# Altium schematic symbol library AMPHENOL_10118194-0001LF.SchLib: 1 symbol
Pins are listed as number, name and electrical type; pins without a type are passive.

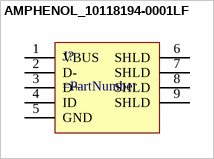
[diagram p0: symbol AMPHENOL_10118194-0001LF]

## AMPHENOL_10118194-0001LF
designator J?
pins: 1 VBUS, 2 D-, 3 D+, 4 ID, 5 GND, 6 SHLD, 7 SHLD, 8 SHLD, 9 SHLD